# Altium schematic symbol library 6.模块封装、Mark点、定位孔.SchLib: 11 symbols
Pins are listed as number, name and electrical type; pins without a type are passive.

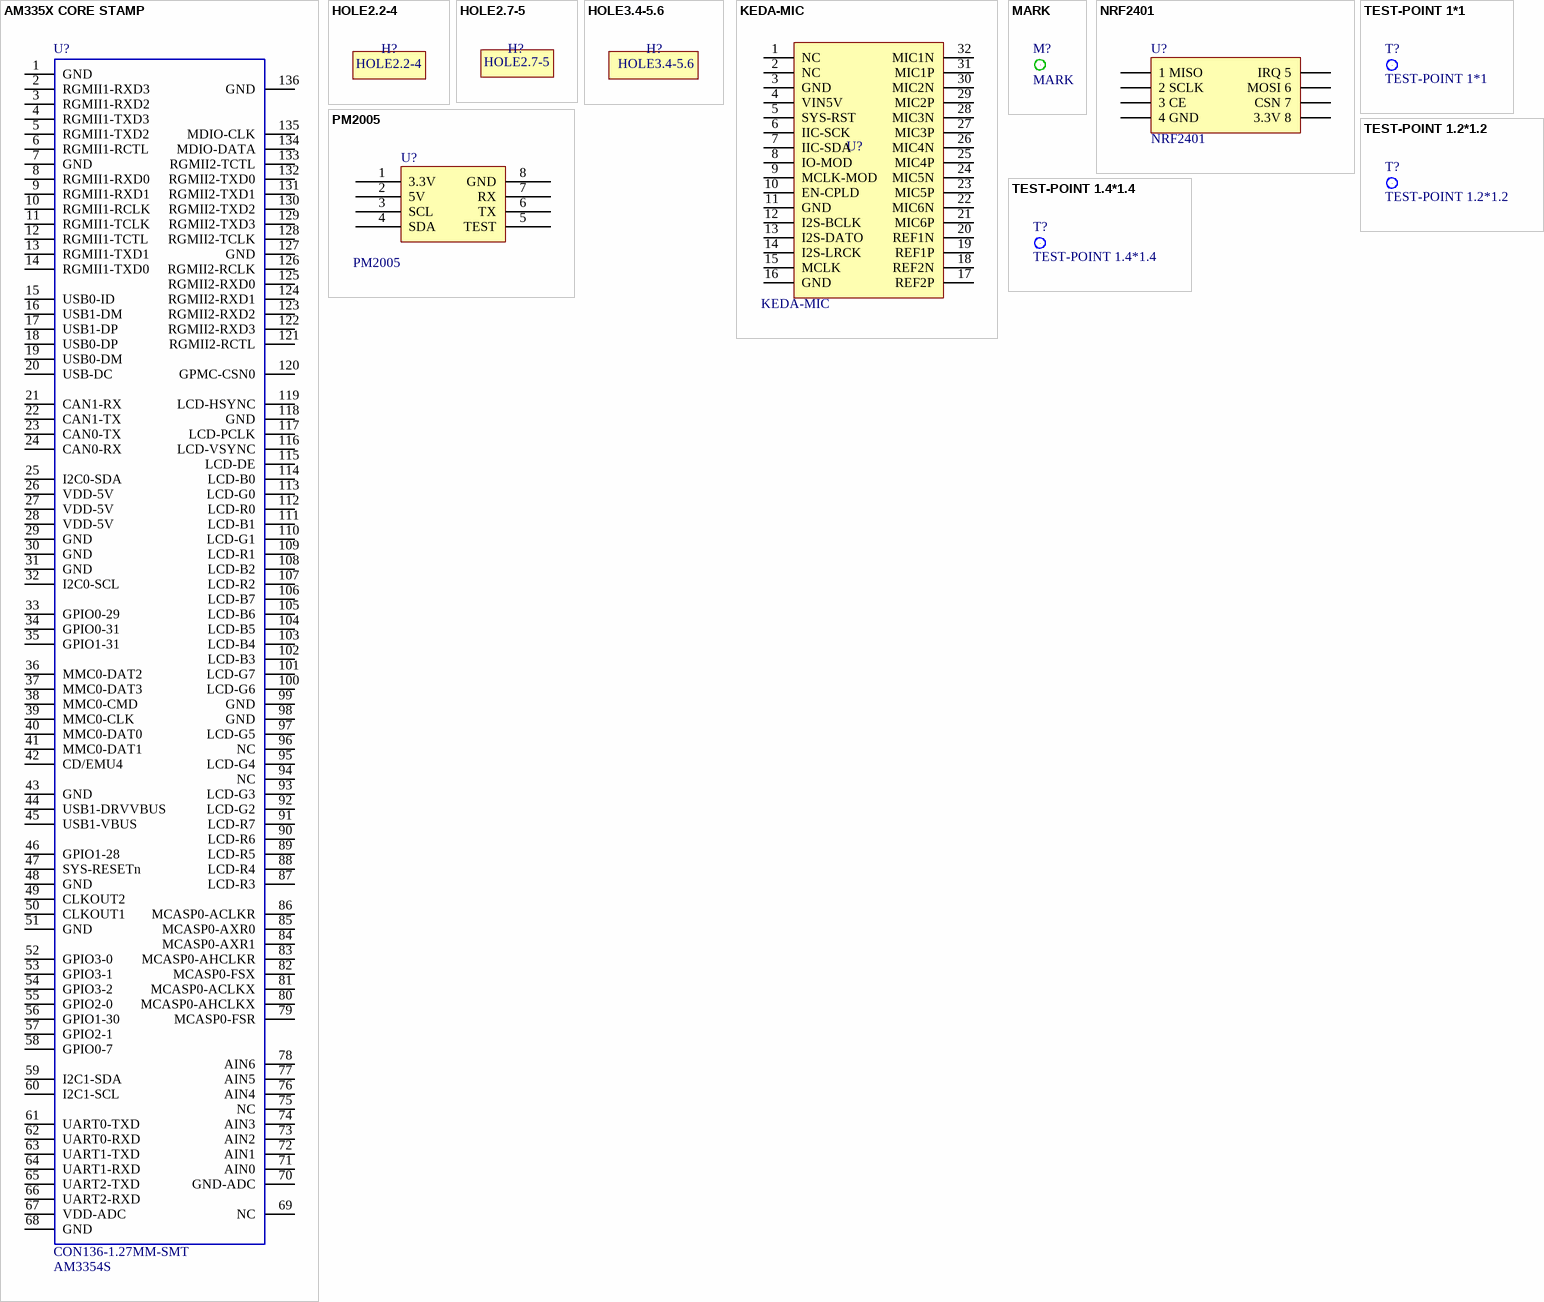
[diagram p0: symbols AM335X CORE STAMP to TEST-POINT 1.4*1.4]

## AM335X CORE STAMP
designator U?, comment CON136-1.27MM-SMT  value AM3354S
AM335X CORE STAMP
footprint FET335S_V1.1
pins: 1 GND, 2 RGMII1-RXD3, 3 RGMII1-RXD2, 4 RGMII1-TXD3, 5 RGMII1-TXD2, 6 RGMII1-RCTL, 7 GND, 8 RGMII1-RXD0, 9 RGMII1-RXD1, 10 RGMII1-RCLK, 11 RGMII1-TCLK, 12 RGMII1-TCTL, 13 RGMII1-TXD1, 14 RGMII1-TXD0, 15 USB0-ID, 16 USB1-DM, 17 USB1-DP, 18 USB0-DP, 19 USB0-DM, 20 USB-DC, 21 CAN1-RX, 22 CAN1-TX, 23 CAN0-TX, 24 CAN0-RX, 25 I2C0-SDA, 26 VDD-5V, 27 VDD-5V, 28 VDD-5V, 29 GND, 30 GND, 31 GND, 32 I2C0-SCL, 33 GPIO0-29, 34 GPIO0-31, 35 GPIO1-31, 36 MMC0-DAT2, 37 MMC0-DAT3, 38 MMC0-CMD, 39 MMC0-CLK, 40 MMC0-DAT0, 41 MMC0-DAT1, 42 CD/EMU4, 43 GND, 44 USB1-DRVVBUS, 45 USB1-VBUS, 46 GPIO1-28, 47 SYS-RESETn, 48 GND, 49 CLKOUT2, 50 CLKOUT1, 51 GND, 52 GPIO3-0, 53 GPIO3-1, 54 GPIO3-2, 55 GPIO2-0, 56 GPIO1-30, 57 GPIO2-1, 58 GPIO0-7, 59 I2C1-SDA, 60 I2C1-SCL, 61 UART0-TXD, 62 UART0-RXD, 63 UART1-TXD, 64 UART1-RXD, 65 UART2-TXD, 66 UART2-RXD, 67 VDD-ADC, 68 GND, 69 NC, 70 GND-ADC, 71 AIN0, 72 AIN1, 73 AIN2, 74 AIN3, 75 NC, 76 AIN4, 77 AIN5, 78 AIN6, 79 MCASP0-FSR, 80 MCASP0-AHCLKX, 81 MCASP0-ACLKX, 82 MCASP0-FSX, 83 MCASP0-AHCLKR, 84 MCASP0-AXR1, 85 MCASP0-AXR0, 86 MCASP0-ACLKR, 87 LCD-R3, 88 LCD-R4, 89 LCD-R5, 90 LCD-R6, 91 LCD-R7, 92 LCD-G2, 93 LCD-G3, 94 NC, 95 LCD-G4, 96 NC, 97 LCD-G5, 98 GND, 99 GND, 100 LCD-G6, 101 LCD-G7, 102 LCD-B3, 103 LCD-B4, 104 LCD-B5, 105 LCD-B6, 106 LCD-B7, 107 LCD-R2, 108 LCD-B2, 109 LCD-R1, 110 LCD-G1, 111 LCD-B1, 112 LCD-R0, 113 LCD-G0, 114 LCD-B0, 115 LCD-DE, 116 LCD-VSYNC, 117 LCD-PCLK, 118 GND, 119 LCD-HSYNC, 120 GPMC-CSN0, 121 RGMII2-RCTL, 122 RGMII2-RXD3, 123 RGMII2-RXD2, 124 RGMII2-RXD1, 125 RGMII2-RXD0, 126 RGMII2-RCLK, 127 GND, 128 RGMII2-TCLK, 129 RGMII2-TXD3, 130 RGMII2-TXD2, 131 RGMII2-TXD1, 132 RGMII2-TXD0, 133 RGMII2-TCTL, 134 MDIO-DATA, 135 MDIO-CLK, 136 GND

## HOLE2.2-4
designator H?  (value not drawn)
Value: NC
footprint HOLE2.2-4

## HOLE2.7-5
designator H?  (value not drawn)
Value: NC
footprint HOLE2.7-5

## HOLE3.4-5.6
designator H?  (value not drawn)
Value: NC
footprint HOLE3.4-5.6

## KEDA-MIC
designator U?
科大环麦处理板
pins: 1 NC, 2 NC, 3 GND, 4 VIN5V, 5 SYS-RST, 6 IIC-SCK, 7 IIC-SDA, 8 IO-MOD, 9 MCLK-MOD, 10 EN-CPLD, 11 GND, 12 I2S-BCLK, 13 I2S-DATO, 14 I2S-LRCK, 15 MCLK, 16 GND, 17 REF2P, 18 REF2N, 19 REF1P, 20 REF1N, 21 MIC6P, 22 MIC6N, 23 MIC5P, 24 MIC5N, 25 MIC4P, 26 MIC4N, 27 MIC3P, 28 MIC3N, 29 MIC2P, 30 MIC2N, 31 MIC1P, 32 MIC1N

## MARK
designator M?, comment value MARK  (hidden comment: MARK-R(0.5+0.7))
MARK
footprint MARK-R(0.5+0.7)
pins: 0

## NRF2401
designator U?  value NRF2401
Single chip 2.4 GHz Transceiver
footprint NRF2401MODULE
pins: 1 1 MISO, 2 2 SCLK, 3 3 CE, 4 4 GND, 5 IRQ 5, 6 MOSI 6, 7 CSN 7, 8 3.3V 8

## PM2005
designator U?
Value: PM2005
footprint PM2005
pins: 1 3.3V, 2 5V, 3 SCL, 4 SDA, 5 TEST, 6 TX, 7 RX, 8 GND

## TEST-POINT 1*1
designator T?
Value: NC
footprint TEST-POINT-1*1
pins: 1

## TEST-POINT 1.2*1.2
designator T?
Value: NC
footprint TEST-POINT-1.2*1.2
pins: 1

## TEST-POINT 1.4*1.4
designator T?
Value: NC
footprint TEST-POINT-1.4*1.4 (Footprint not found)
pins: 1